# EAGLE library part ERF8-049-XX-X-D-RA (library con-samtec-er8)
ERF8 Series - Female Right Angle Edge Mount
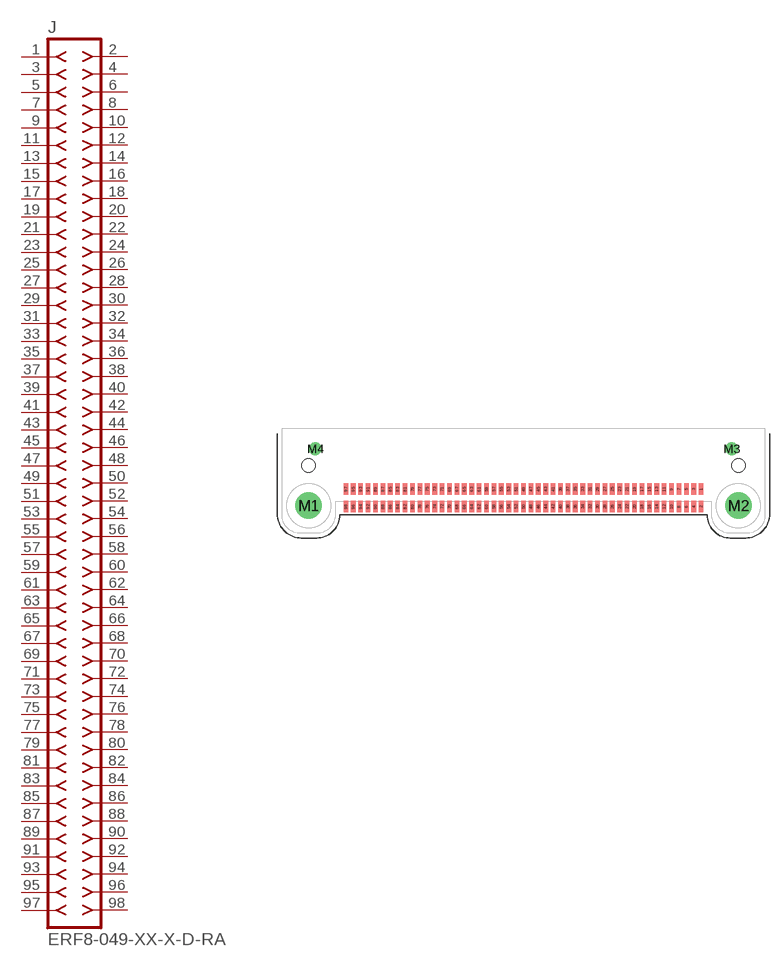
[diagram p37: symbol with the pads of ERF8-049-XX-X-D-RA; footprint ERF8-049-XX-X-D-RA]

Designator prefix J

## ERF8-049-XX-X-D-RA  [ERF8-049-XX-X-D-RA]
1  1  pas
2  2  pas
3  3  pas
4  4  pas
5  5  pas
6  6  pas
7  7  pas
8  8  pas
9  9  pas
10  10  pas
11  11  pas
12  12  pas
13  13  pas
14  14  pas
15  15  pas
16  16  pas
17  17  pas
18  18  pas
19  19  pas
20  20  pas
21  21  pas
22  22  pas
23  23  pas
24  24  pas
25  25  pas
26  26  pas
27  27  pas
28  28  pas
29  29  pas
30  30  pas
31  31  pas
32  32  pas
33  33  pas
34  34  pas
35  35  pas
36  36  pas
37  37  pas
38  38  pas
39  39  pas
40  40  pas
41  41  pas
42  42  pas
43  43  pas
44  44  pas
45  45  pas
46  46  pas
47  47  pas
48  48  pas
49  49  pas
50  50  pas
51  51  pas
52  52  pas
53  53  pas
54  54  pas
55  55  pas
56  56  pas
57  57  pas
58  58  pas
59  59  pas
60  60  pas
61  61  pas
62  62  pas
63  63  pas
64  64  pas
65  65  pas
66  66  pas
67  67  pas
68  68  pas
69  69  pas
70  70  pas
71  71  pas
72  72  pas
73  73  pas
74  74  pas
75  75  pas
76  76  pas
77  77  pas
78  78  pas
79  79  pas
80  80  pas
81  81  pas
82  82  pas
83  83  pas
84  84  pas
85  85  pas
86  86  pas
87  87  pas
88  88  pas
89  89  pas
90  90  pas
91  91  pas
92  92  pas
93  93  pas
94  94  pas
95  95  pas
96  96  pas
97  97  pas
98  98  pas

## Footprint ERF8-049-XX-X-D-RA (pad centres in mm)
0.8mm Edge Rate Terminal Assembly FEMALE, Double Row Right Angle, 49 Position
smd 0.5 x 1.25: 1 19.2,0.94; 2 19.2,-0.94; 3 18.4,0.94; 4 18.4,-0.94; 5 17.6,0.94; 6 17.6,-0.94; 7 16.8,0.94; 8 16.8,-0.94; 9 16,0.94; 10 16,-0.94; 11 15.2,0.94; 12 15.2,-0.94; 13 14.4,0.94; 14 14.4,-0.94; 15 13.6,0.94; 16 13.6,-0.94; 17 12.8,0.94; 18 12.8,-0.94; 19 12,0.94; 20 12,-0.94; 21 11.2,0.94; 22 11.2,-0.94; 23 10.4,0.94; 24 10.4,-0.94; 25 9.6,0.94; 26 9.6,-0.94; 27 8.8,0.94; 28 8.8,-0.94; 29 8,0.94; 30 8,-0.94; 31 7.2,0.94; 32 7.2,-0.94; 33 6.4,0.94; 34 6.4,-0.94; 35 5.6,0.94; 36 5.6,-0.94; 37 4.8,0.94; 38 4.8,-0.94; 39 4,0.94; 40 4,-0.94; 41 3.2,0.94; 42 3.2,-0.94; 43 2.4,0.94; 44 2.4,-0.94; 45 1.6,0.94; 46 1.6,-0.94; 47 0.8,0.94; 48 0.8,-0.94; 49 0,0.94; 50 0,-0.94; 51 -0.8,0.94; 52 -0.8,-0.94; 53 -1.6,0.94; 54 -1.6,-0.94; 55 -2.4,0.94; 56 -2.4,-0.94; 57 -3.2,0.94; 58 -3.2,-0.94; 59 -4,0.94; 60 -4,-0.94; 61 -4.8,0.94; 62 -4.8,-0.94; 63 -5.6,0.94; 64 -5.6,-0.94; 65 -6.4,0.94; 66 -6.4,-0.94; 67 -7.2,0.94; 68 -7.2,-0.94; 69 -8,0.94; 70 -8,-0.94; 71 -8.8,0.94; 72 -8.8,-0.94; 73 -9.6,0.94; 74 -9.6,-0.94; 75 -10.4,0.94; 76 -10.4,-0.94; 77 -11.2,0.94; 78 -11.2,-0.94; 79 -12,0.94; 80 -12,-0.94; 81 -12.8,0.94; 82 -12.8,-0.94; 83 -13.6,0.94; 84 -13.6,-0.94; 85 -14.4,0.94; 86 -14.4,-0.94; 87 -15.2,0.94; 88 -15.2,-0.94; 89 -16,0.94; 90 -16,-0.94; 91 -16.8,0.94; 92 -16.8,-0.94; 93 -17.6,0.94; 94 -17.6,-0.94; 95 -18.4,0.94; 96 -18.4,-0.94; 97 -19.2,0.94; 98 -19.2,-0.94
drill 1.905 pad 2.41: M1 -23.225,-0.835; M2 23.225,-0.835
drill 0.63 pad 1.4: M3 22.5,5.295; M4 -22.5,5.295
hole 1.45 at -23.225,3.515
hole 1.45 at 23.225,3.515